# Altium footprint library Intercom Gen2 Main PCB.PcbLib: 115 footprints (part 5 of 8)
Each footprint in its own frame and in the unit in brackets; x right, y up, seen from the top. Pads: shape width x height; smd on the part's side, far side on the other; paste and mask are expansions set on the pad; w line width, h text height; cw(c..) or ccw(c..) is an arc to the next point about the centre after c.
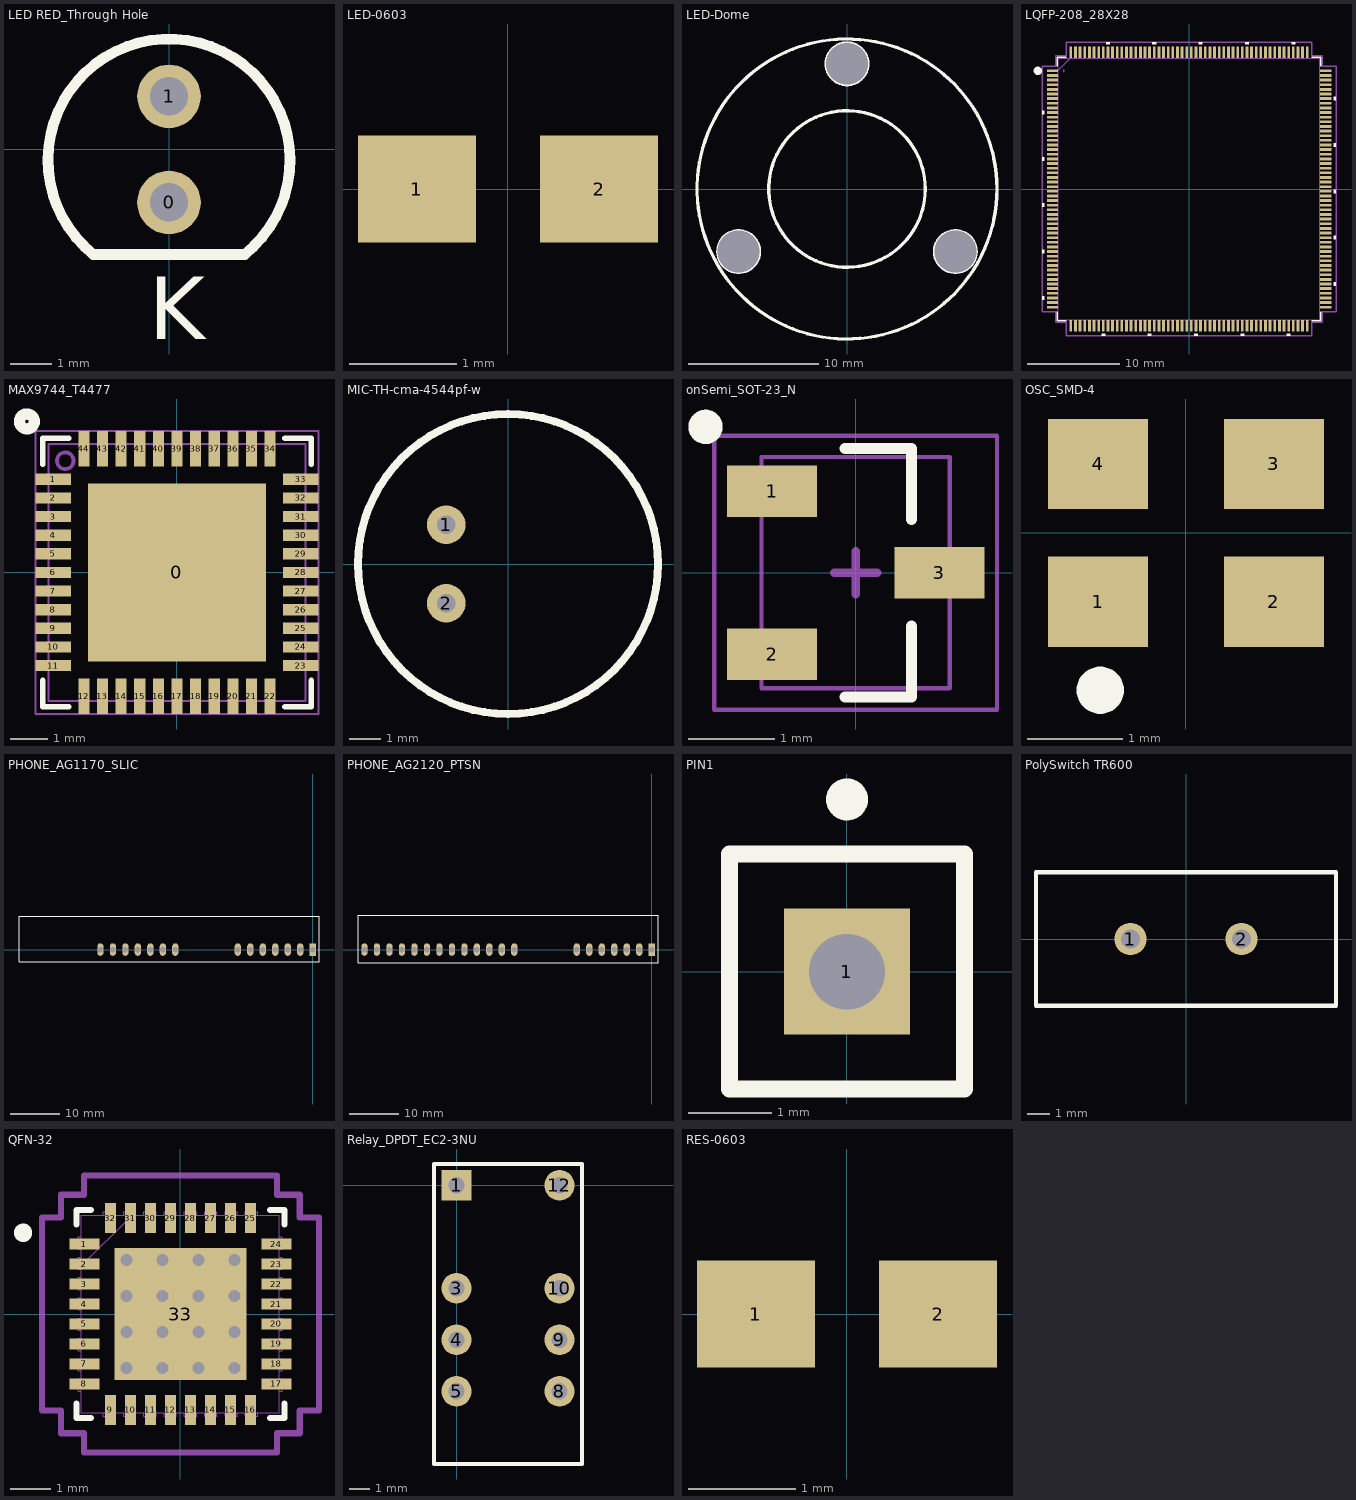
[diagram p4: the footprints below, top view; thin cyan lines are the x and y axes]

## LED RED_Through Hole [mm]
height 0.8
pads (2):
  round 1.52 hole 0.92: 0(0,-1.27) 1(0,1.27)
Top Overlay:
  lines w0.254: -1.809,-2.515 cw(c0,-0.254) 1.809,-2.515 -1.809,-2.515
  text "K" at -0.485,-4.538 h1.5

## LED-0603 [mm]
pads (2):
  rect 1.1x1 smd: 1(-0.85,0) 2(0.85,0)
3D body "SW3DPS-RESISTOR 0603-DEFAULT.STEP": height 0.53, standoff 0.02, extent -0.8,-0.415 0.8,0.445

## LED-Dome [mm]
height 0.8
pads (3):
  round 0 hole 3.2: 0(-8.31,-4.8) 0(0,9.6) 0(8.31,-4.8)
Top Overlay:
  circle w0.254: c0,0 r11.5
  circle w0.254: c0,0 r6
  circle w0.254: c8.31,-4.8 r1.6
  circle w0.254: c0,9.6 r1.6
  circle w0.254: c-8.31,-4.8 r1.6

## LQFP-208_28X28 [mm]
pads (208):
  rect 1.2x0.3 smd: 1(-14.75,12.75) 2(-14.75,12.25) 3(-14.75,11.75) 4(-14.75,11.25) 5(-14.75,10.75) 6(-14.75,10.25) 7(-14.75,9.75) 8(-14.75,9.25) 9(-14.75,8.75) 10(-14.75,8.25) 11(-14.75,7.75) 12(-14.75,7.25) 13(-14.75,6.75) 14(-14.75,6.25) 15(-14.75,5.75) 16(-14.75,5.25) 17(-14.75,4.75) 18(-14.75,4.25) 19(-14.75,3.75) 20(-14.75,3.25) 21(-14.75,2.75) 22(-14.75,2.25) 23(-14.75,1.75) 24(-14.75,1.25) 25(-14.75,0.75) 26(-14.75,0.25) 27(-14.75,-0.25) 28(-14.75,-0.75) 29(-14.75,-1.25) 30(-14.75,-1.75) 31(-14.75,-2.25) 32(-14.75,-2.75) 33(-14.75,-3.25) 34(-14.75,-3.75) 35(-14.75,-4.25) 36(-14.75,-4.75) 37(-14.75,-5.25) 38(-14.75,-5.75) 39(-14.75,-6.25) 40(-14.75,-6.75) 41(-14.75,-7.25) 42(-14.75,-7.75) 43(-14.75,-8.25) 44(-14.75,-8.75) 45(-14.75,-9.25) 46(-14.75,-9.75) 47(-14.75,-10.25) 48(-14.75,-10.75) 49(-14.75,-11.25) 50(-14.75,-11.75) 51(-14.75,-12.25) 52(-14.75,-12.75) 105(14.75,-12.75) 106(14.75,-12.25) 107(14.75,-11.75) 108(14.75,-11.25) 109(14.75,-10.75) 110(14.75,-10.25) 111(14.75,-9.75) 112(14.75,-9.25) 113(14.75,-8.75) 114(14.75,-8.25) 115(14.75,-7.75) 116(14.75,-7.25) 117(14.75,-6.75) 118(14.75,-6.25) 119(14.75,-5.75) 120(14.75,-5.25) 121(14.75,-4.75) 122(14.75,-4.25) 123(14.75,-3.75) 124(14.75,-3.25) 125(14.75,-2.75) 126(14.75,-2.25) 127(14.75,-1.75) 128(14.75,-1.25) 129(14.75,-0.75) 130(14.75,-0.25) 131(14.75,0.25) 132(14.75,0.75) 133(14.75,1.25) 134(14.75,1.75) 135(14.75,2.25) 136(14.75,2.75) 137(14.75,3.25) 138(14.75,3.75) 139(14.75,4.25) 140(14.75,4.75) 141(14.75,5.25) 142(14.75,5.75) 143(14.75,6.25) 144(14.75,6.75) 145(14.75,7.25) 146(14.75,7.75) 147(14.75,8.25) 148(14.75,8.75) 149(14.75,9.25) 150(14.75,9.75) 151(14.75,10.25) 152(14.75,10.75) 153(14.75,11.25) 154(14.75,11.75) 155(14.75,12.25) 156(14.75,12.75)
  rect 0.3x1.2 smd: 53(-12.75,-14.75) 54(-12.25,-14.75) 55(-11.75,-14.75) 56(-11.25,-14.75) 57(-10.75,-14.75) 58(-10.25,-14.75) 59(-9.75,-14.75) 60(-9.25,-14.75) 61(-8.75,-14.75) 62(-8.25,-14.75) 63(-7.75,-14.75) 64(-7.25,-14.75) 65(-6.75,-14.75) 66(-6.25,-14.75) 67(-5.75,-14.75) 68(-5.25,-14.75) 69(-4.75,-14.75) 70(-4.25,-14.75) 71(-3.75,-14.75) 72(-3.25,-14.75) 73(-2.75,-14.75) 74(-2.25,-14.75) 75(-1.75,-14.75) 76(-1.25,-14.75) 77(-0.75,-14.75) 78(-0.25,-14.75) 79(0.25,-14.75) 80(0.75,-14.75) 81(1.25,-14.75) 82(1.75,-14.75) 83(2.25,-14.75) 84(2.75,-14.75) 85(3.25,-14.75) 86(3.75,-14.75) 87(4.25,-14.75) 88(4.75,-14.75) 89(5.25,-14.75) 90(5.75,-14.75) 91(6.25,-14.75) 92(6.75,-14.75) 93(7.25,-14.75) 94(7.75,-14.75) 95(8.25,-14.75) 96(8.75,-14.75) 97(9.25,-14.75) 98(9.75,-14.75) 99(10.25,-14.75) 100(10.75,-14.75) 101(11.25,-14.75) 102(11.75,-14.75) 103(12.25,-14.75) 104(12.75,-14.75) 157(12.75,14.75) 158(12.25,14.75) 159(11.75,14.75) 160(11.25,14.75) 161(10.75,14.75) 162(10.25,14.75) 163(9.75,14.75) 164(9.25,14.75) 165(8.75,14.75) 166(8.25,14.75) 167(7.75,14.75) 168(7.25,14.75) 169(6.75,14.75) 170(6.25,14.75) 171(5.75,14.75) 172(5.25,14.75) 173(4.75,14.75) 174(4.25,14.75) 175(3.75,14.75) 176(3.25,14.75) 177(2.75,14.75) 178(2.25,14.75) 179(1.75,14.75) 180(1.25,14.75) 181(0.75,14.75) 182(0.25,14.75) 183(-0.25,14.75) 184(-0.75,14.75) 185(-1.25,14.75) 186(-1.75,14.75) 187(-2.25,14.75) 188(-2.75,14.75) 189(-3.25,14.75) 190(-3.75,14.75) 191(-4.25,14.75) 192(-4.75,14.75) 193(-5.25,14.75) 194(-5.75,14.75) 195(-6.25,14.75) 196(-6.75,14.75) 197(-7.25,14.75) 198(-7.75,14.75) 199(-8.25,14.75) 200(-8.75,14.75) 201(-9.25,14.75) 202(-9.75,14.75) 203(-10.25,14.75) 204(-10.75,14.75) 205(-11.25,14.75) 206(-11.75,14.75) 207(-12.25,14.75) 208(-12.75,14.75)
Top Overlay:
  circle w0.5: c-16.31,12.75 r0.2
  region: -15.604,-11.559 -15.858,-11.559 -15.858,-11.94 -15.604,-11.94
  region: -15.604,-6.559 -15.858,-6.559 -15.858,-6.94 -15.604,-6.94
  region: -15.604,-1.559 -15.858,-1.559 -15.858,-1.94 -15.604,-1.94
  region: -15.604,3.441 -15.858,3.441 -15.858,3.06 -15.604,3.06
  region: -15.604,8.441 -15.858,8.441 -15.858,8.06 -15.604,8.06
  region: -8.56,15.604 -8.941,15.604 -8.941,15.858 -8.56,15.858
  region: -3.56,15.604 -3.941,15.604 -3.941,15.858 -3.56,15.858
  region: 1.441,15.604 1.06,15.604 1.06,15.858 1.441,15.858
  region: 11.441,15.604 11.06,15.604 11.06,15.858 11.441,15.858
  region: 6.441,15.604 6.06,15.604 6.06,15.858 6.441,15.858
  region: -9.059,-15.604 -9.44,-15.604 -9.44,-15.858 -9.059,-15.858
  region: 0.941,-15.604 0.56,-15.604 0.56,-15.858 0.941,-15.858
  region: 5.941,-15.604 5.56,-15.604 5.56,-15.858 5.941,-15.858
  region: 10.941,-15.604 10.56,-15.604 10.56,-15.858 10.941,-15.858
  region: -4.059,-15.604 -4.44,-15.604 -4.44,-15.858 -4.059,-15.858
  region: 15.604,-5.059 15.858,-5.059 15.858,-5.44 15.604,-5.44
  region: 15.604,-0.059 15.858,-0.059 15.858,-0.44 15.604,-0.44
  region: 15.604,4.941 15.858,4.941 15.858,4.56 15.604,4.56
  region: 15.604,9.941 15.858,9.941 15.858,9.56 15.604,9.56
  region: 15.604,-10.059 15.858,-10.059 15.858,-10.44 15.604,-10.44
  lines w0.152: -14.227,-13.233 -14.227,-14.227 -13.233,-14.227 ; -14.227,13.233 -14.227,14.227 -13.233,14.227 ; 13.233,-14.227 14.227,-14.227 14.227,-13.233 ; 13.233,14.227 14.227,14.227 14.227,13.233
Mechanical 13:
  circle w0: c-13.515,12.75 r0.076
  lines w0.025: -14.1,12.83 -12.83,14.1 ; -14.1,-14.1 -14.1,14.1 14.1,14.1 14.1,-14.1 -14.1,-14.1
Mechanical 15:
  lines w0.152: -15.858,-13.258 -15.858,13.258 -14.354,13.258 -14.354,14.354 -13.258,14.354 -13.258,15.858 13.258,15.858 13.258,14.354 14.354,14.354 14.354,13.258 15.858,13.258 15.858,-13.258 14.354,-13.258 14.354,-14.354 13.258,-14.354 13.258,-15.858 -13.258,-15.858 -13.258,-14.354 -14.354,-14.354 -14.354,-13.258 -15.858,-13.258
3D body "STM32F746BGT6--3DModel-STEP-56544.STEP": height 1.6, standoff 0, extent -15,-15 15,15

## MAX9744_T4477 [mm] "Maxim IC_ 44-Thin QFN 7x7x0.75mm, Exposed Pad 4.78x4.78mm"
height 0.8
pads (45):
  rect 4.78x4.78 smd: 0(0,0)
  rect 0.95x0.3 smd: 1(-3.325,2.5) 2(-3.325,2) 3(-3.325,1.5) 4(-3.325,1) 5(-3.325,0.5) 6(-3.325,0) 7(-3.325,-0.5) 8(-3.325,-1) 9(-3.325,-1.5) 10(-3.325,-2) 11(-3.325,-2.5) 23(3.325,-2.5) 24(3.325,-2) 25(3.325,-1.5) 26(3.325,-1) 27(3.325,-0.5) 28(3.325,0) 29(3.325,0.5) 30(3.325,1) 31(3.325,1.5) 32(3.325,2) 33(3.325,2.5)
  rect 0.3x0.95 smd: 12(-2.5,-3.325) 13(-2,-3.325) 14(-1.5,-3.325) 15(-1,-3.325) 16(-0.5,-3.325) 17(0,-3.325) 18(0.5,-3.325) 19(1,-3.325) 20(1.5,-3.325) 21(2,-3.325) 22(2.5,-3.325) 34(2.5,3.325) 35(2,3.325) 36(1.5,3.325) 37(1,3.325) 38(0.5,3.325) 39(0,3.325) 40(-0.5,3.325) 41(-1,3.325) 42(-1.5,3.325) 43(-2,3.325) 44(-2.5,3.325)
Top Overlay:
  circle w0.3: c-4.028,4.054 r0.2
  lines w0.15: -3.6,-2.9 -3.6,-3.6 -2.9,-3.6 ; -3.6,2.9 -3.6,3.6 -2.9,3.6 ; 2.9,-3.6 3.6,-3.6 3.6,-2.9 ; 2.9,3.6 3.6,3.6 3.6,2.9
Top Assembly:
  circle w0.1: c-3,3 r0.224
  lines w0.05: -3.448,-3.448 3.448,-3.448 3.448,3.448 -3.448,3.448 -3.448,-3.448
  text ".Designator" at -3.091,-0.287 h1.27
Top Courtyard:
  lines w0.05: -3.798,-3.798 3.798,-3.798 3.798,3.798 -3.798,3.798 -3.798,-3.798
  lines w0.15: -0.5,0 0.5,0 ; 0,-0.5 0,0.5
3D body "21-0144H_T4477-2_MXM.step": height 0.83, standoff 0.02, extent -3.556,-3.556 3.556,3.556

## MIC-TH-cma-4544pf-w [mm]
height 4.7
pads (2):
  oval 1.25x1.251 hole 0.6: 1(-2,1.27) 2(-2,-1.27)
Top Overlay:
  circle w0.254: c0,0 r4.85

## onSemi_SOT-23_N [mm] "Slightlly modified version of standard onSemi SOT−23 (TO−236) 2.90x1.30x1.00 1.90P footprint, pads slighly enlarged, medium courtyard / Reference: https://www.onsemi.com/pdf/datasheet/bc846alt1-d.pdf"
height 1
pads (3):
  rect 1.05x0.6 smd: 1(-0.975,0.95) 2(-0.975,-0.95) 3(0.975,0)
Top Overlay:
  circle w0.2: c-1.75,1.7 r0.1
  lines w0.127: -0.125,-1.45 0.65,-1.45 0.65,-0.62 ; -0.125,1.45 0.65,1.45 0.65,0.62
Top Assembly:
  circle w0.1: c-0.75,0.95 r0.225
  lines w0.05: -1.098,-1.348 1.098,-1.348 1.098,1.348 -1.098,1.348 -1.098,-1.348
  text ".designator" at -2.499,-0.167 h0.5
Top Courtyard:
  lines w0.05: -1.648,-1.598 1.648,-1.598 1.648,1.598 -1.648,1.598 -1.648,-1.598
  lines w0.1: -0.25,0 0.25,0 ; 0,-0.25 0,0.25
3D body "step_temp.STEP": height 1.11, standoff 0, extent -1.2,-1.45 1.2,1.45

## OSC_SMD-4 [mm] "Kyocera KC2520B-C1 Series"
height 0.7
pads (5):
  rect 1.05x0.95 smd paste-0.1: 1(-0.925,-0.725) 2(0.925,-0.725) 3(0.925,0.725) 4(-0.925,0.725)
  round 0.5 on Top Overlay: ""(-0.902,-1.656)
3D body "User Library-VCXO 2_5x2_0.STEP": height 0.7, standoff -0.01, extent -1.25,-1 1.25,1

## PHONE_AG1170_SLIC [mil]
height 472.44
pads (14):
  rect 50x100 hole 45: 1(0,0)
  oval 50x100 hole 45: 2(-100,0) 3(-200,0) 4(-300,0) 5(-400,0) 6(-500,0) 7(-600,0) 8(-1100,0) 9(-1200,0) 10(-1300,0) 11(-1400,0) 12(-1500,0) 13(-1600,0) 14(-1700,0)
Top Overlay:
  lines w10: -2351.57,-98.43 50,-98.43 50,267.72 -2351.57,267.72 -2351.57,-98.43

## PHONE_AG2120_PTSN [mil]
height 472.44
pads (20):
  rect 50x100 hole 45: 1(0,0)
  oval 50x100 hole 45: 2(-100,0) 3(-200,0) 4(-300,0) 5(-400,0) 6(-500,0) 7(-600,0) 8(-1100,0) 9(-1200,0) 10(-1300,0) 11(-1400,0) 12(-1500,0) 13(-1600,0) 14(-1700,0) 15(-1800,0) 16(-1900,0) 17(-2000,0) 18(-2100,0) 19(-2200,0) 20(-2300,0)
Top Overlay:
  lines w10: -2351.57,-106.3 -2351.57,275.59 50,275.59 50,-106.3 -2351.57,-106.3

## PIN1 [mm] "Connector; Plug"
height 2.54
pads (1):
  rect 1.5x1.5 hole 0.9: 1(0,0)
Top Overlay:
  circle w0.25: c0,2.05 r0.125
  lines w0.2: -1.4,-1.4 1.4,-1.4 1.4,1.4 -1.4,1.4 -1.4,-1.4

## PolySwitch TR600 [mm]
height 2.54
pads (2):
  round 1.45 hole 0.85: 1(-2.5,0) 2(2.5,0)
Top Overlay:
  lines w0.2: -6.75,-3 6.75,-3 6.75,3 -6.75,3 -6.75,-3
3D body: height 12.6, standoff 0, extent -6.75,-3 6.75,3

## Project Name and Revision [mm] "Project Name and revision, on silkscreen"
Top Overlay:
  text ".PCBAProjectName" at 0,0 h1.6
  text ".Xrevision" at 0,-2.54 h1.6

## QFN-32 [mm] "32-QFN, 5.0x5.0x1mm body, 0.5mm pitch, 3.3x3.3mm ePAD"
height 1
pads (33):
  rect 0.75x0.28 smd paste-0.025 mask+0.05: 1(-2.4,1.75) 2(-2.4,1.25) 3(-2.4,0.75) 4(-2.4,0.25) 5(-2.4,-0.25) 6(-2.4,-0.75) 7(-2.4,-1.25) 8(-2.4,-1.75) 17(2.4,-1.75) 18(2.4,-1.25) 19(2.4,-0.75) 20(2.4,-0.25) 21(2.4,0.25) 22(2.4,0.75) 23(2.4,1.25) 24(2.4,1.75)
  rect 0.28x0.75 smd paste-0.025 mask+0.05: 9(-1.75,-2.4) 10(-1.25,-2.4) 11(-0.75,-2.4) 12(-0.25,-2.4) 13(0.25,-2.4) 14(0.75,-2.4) 15(1.25,-2.4) 16(1.75,-2.4) 25(1.75,2.4) 26(1.25,2.4) 27(0.75,2.4) 28(0.25,2.4) 29(-0.25,2.4) 30(-0.75,2.4) 31(-1.25,2.4) 32(-1.75,2.4)
  rect 3.3x3.3 smd paste-100 mask+0.05: 33(0,0)
via -1.35,-1.35 diameter 0.5 hole 0.3
via -0.45,-1.35 diameter 0.5 hole 0.3
via 0.45,-1.35 diameter 0.5 hole 0.3
via 1.35,-1.35 diameter 0.5 hole 0.3
via 1.35,-0.45 diameter 0.5 hole 0.3
via 1.35,0.45 diameter 0.5 hole 0.3
via 1.35,1.35 diameter 0.5 hole 0.3
via 0.45,1.35 diameter 0.5 hole 0.3
via -0.45,1.35 diameter 0.5 hole 0.3
via -1.35,1.35 diameter 0.5 hole 0.3
via -1.35,0.45 diameter 0.5 hole 0.3
via -0.45,0.45 diameter 0.5 hole 0.3
via 0.45,0.45 diameter 0.5 hole 0.3
via 0.45,-0.45 diameter 0.5 hole 0.3
via -0.45,-0.45 diameter 0.5 hole 0.3
via -1.35,-0.45 diameter 0.5 hole 0.3
Top Overlay:
  circle w0.254: c-3.937,2.032 r0.102
  lines w0.152: -2.603,-2.238 -2.603,-2.603 -2.238,-2.603 ; -2.603,2.238 -2.603,2.603 -2.238,2.603 ; 2.238,-2.603 2.603,-2.603 2.603,-2.238 ; 2.238,2.603 2.603,2.603 2.603,2.238
Top Paste:
  circle w0.4: c-0.9,-0.9 r0.1
  circle w0.4: c0,-0.9 r0.1
  circle w0.4: c0.9,-0.9 r0.1
  circle w0.4: c0.9,0 r0.1
  circle w0.4: c0,0 r0.1
  circle w0.4: c-0.9,0 r0.1
  circle w0.4: c-0.9,0.9 r0.1
  circle w0.4: c0,0.9 r0.1
  circle w0.4: c0.9,0.9 r0.1
Mechanical 13:
  lines w0.025: -2.476,1.206 -1.206,2.476 ; -2.553,-1.93 -2.553,-1.626 -2.476,-1.626 -2.476,-1.93 -2.553,-1.93 ; -2.553,-1.422 -2.553,-1.118 -2.476,-1.118 -2.476,-1.422 -2.553,-1.422 ; -2.553,-0.914 -2.553,-0.61 -2.476,-0.61 -2.476,-0.914 -2.553,-0.914 ; -2.553,-0.406 -2.553,-0.102 -2.476,-0.102 -2.476,-0.406 -2.553,-0.406 ; -2.553,0.102 -2.553,0.406 -2.476,0.406 -2.476,0.102 -2.553,0.102 ; -2.553,0.61 -2.553,0.914 -2.476,0.914 -2.476,0.61 -2.553,0.61 ; -2.553,1.118 -2.553,1.422 -2.476,1.422 -2.476,1.118 -2.553,1.118 ; -2.553,1.626 -2.553,1.93 -2.476,1.93 -2.476,1.626 -2.553,1.626 ; -2.476,-2.476 2.476,-2.476 2.476,2.476 -2.476,2.476 -2.476,-2.476 ; -1.93,-2.553 -1.93,-2.476 -1.626,-2.476 -1.626,-2.553 -1.93,-2.553 ; -1.93,2.476 -1.626,2.476 -1.626,2.553 -1.93,2.553 -1.93,2.476 ; -1.422,-2.553 -1.422,-2.476 -1.118,-2.476 -1.118,-2.553 -1.422,-2.553 ; -1.422,2.476 -1.118,2.476 -1.118,2.553 -1.422,2.553 -1.422,2.476 ; -0.914,-2.553 -0.914,-2.476 -0.61,-2.476 -0.61,-2.553 -0.914,-2.553 ; -0.914,2.476 -0.61,2.476 -0.61,2.553 -0.914,2.553 -0.914,2.476 ; -0.406,-2.553 -0.406,-2.476 -0.102,-2.476 -0.102,-2.553 -0.406,-2.553 ; -0.406,2.476 -0.102,2.476 -0.102,2.553 -0.406,2.553 -0.406,2.476 ; 0.102,-2.553 0.102,-2.476 0.406,-2.476 0.406,-2.553 0.102,-2.553 ; 0.102,2.476 0.406,2.476 0.406,2.553 0.102,2.553 0.102,2.476 ; 0.61,-2.553 0.61,-2.476 0.914,-2.476 0.914,-2.553 0.61,-2.553 ; 0.61,2.476 0.914,2.476 0.914,2.553 0.61,2.553 0.61,2.476 ; 1.118,-2.553 1.118,-2.476 1.422,-2.476 1.422,-2.553 1.118,-2.553 ; 1.118,2.476 1.422,2.476 1.422,2.553 1.118,2.553 1.118,2.476 ; 1.626,-2.553 1.626,-2.476 1.93,-2.476 1.93,-2.553 1.626,-2.553 ; 1.626,2.476 1.93,2.476 1.93,2.553 1.626,2.553 1.626,2.476 ; 2.476,-1.93 2.476,-1.626 2.553,-1.626 2.553,-1.93 2.476,-1.93 ; 2.476,-1.422 2.476,-1.118 2.553,-1.118 2.553,-1.422 2.476,-1.422 ; 2.476,-0.914 2.476,-0.61 2.553,-0.61 2.553,-0.914 2.476,-0.914 ; 2.476,-0.406 2.476,-0.102 2.553,-0.102 2.553,-0.406 2.476,-0.406 ; 2.476,0.102 2.476,0.406 2.553,0.406 2.553,0.102 2.476,0.102 ; 2.476,0.61 2.476,0.914 2.553,0.914 2.553,0.61 2.476,0.61 ; 2.476,1.118 2.476,1.422 2.553,1.422 2.553,1.118 2.476,1.118 ; 2.476,1.626 2.476,1.93 2.553,1.93 2.553,1.626 2.476,1.626
Mechanical 15:
  lines w0.152: -3.467,-2.413 -2.984,-2.413 -2.984,-2.984 -2.413,-2.984 -2.413,-3.467 2.413,-3.467 2.413,-2.984 2.984,-2.984 2.984,-2.413 3.467,-2.413 3.467,2.413 2.984,2.413 2.984,2.984 2.413,2.984 2.413,3.467 -2.413,3.467 -2.413,2.984 -2.984,2.984 -2.984,2.413 -3.467,2.413 -3.467,-2.413
3D body "QFN32_5X5MC_MCH.step": height 1.4, standoff 0, extent -2.553,-2.553 2.553,2.553

## Relay_DPDT_EC2-3NU [mm]
height 2.54
pads (8):
  rect 1.5x1.5 hole 0.8: 1(0,0)
  round 1.5 hole 0.8: 3(0,-5.08) 4(0,-7.62) 5(0,-10.16) 8(5.08,-10.16) 9(5.08,-7.62) 10(5.08,-5.08) 12(5.08,0)
Top Overlay:
  lines w0.2: -1.1,-13.75 -1.1,1.05 6.18,1.05 6.18,-13.75 -1.1,-13.75
3D body: height 9.4, standoff 0, extent -1.1,-13.75 6.18,1.05

## RES-0603 [mm]
height 2.54
pads (2):
  rect 1.1x1 smd: 1(-0.85,0) 2(0.85,0)
3D body "SW3DPS-RESISTOR 0603-DEFAULT.STEP": height 0.53, standoff 0.02, extent -0.8,-0.415 0.8,0.445